# EAGLE library part AD1854 (library analog-devices)
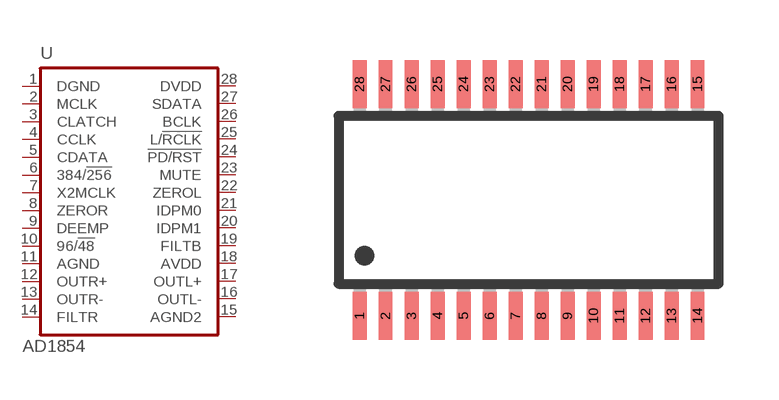
[diagram p150: symbol with the pads of TSSOP28; footprint TSSOP28]

Designator prefix -

## AD1854  [TSSOP28]
1  DGND
2  MCLK
3  CLATCH
4  CCLK  in
5  CDATA  in
6  384/!256  in
7  X2MCLK  in
8  ZEROR  in
9  DEEMP  in
10  96/!48  in
11  AGND  out
12  OUTR+  out
13  OUTR-  in
14  FILTR  out
15  AGND2  out
16  OUTL-  in
17  OUTL+  out
18  AVDD  out
19  FILTB  in
20  IDPM1  in
21  IDPM0  in
22  ZEROL  in
23  MUTE  in
24  !PD/RST  in
25  L/!RCLK  in
26  BCLK  out
27  SDATA  out
28  DVDD  in

## Footprint TSSOP28 (pad centres in mm)
28-Lead TSSOP Package RU-28
smd 0.35 x 1.2: 1 -4.225,-2.9; 2 -3.575,-2.9; 3 -2.925,-2.9; 4 -2.275,-2.9; 5 -1.625,-2.9; 6 -0.975,-2.9; 7 -0.325,-2.9; 8 0.325,-2.9; 9 0.975,-2.9; 10 1.625,-2.9; 11 2.275,-2.9; 12 2.925,-2.9; 13 3.575,-2.9; 14 4.225,-2.9; 15 4.225,2.9; 16 3.575,2.9; 17 2.925,2.9; 18 2.275,2.9; 19 1.625,2.9; 20 0.975,2.9; 21 0.325,2.9; 22 -0.325,2.9; 23 -0.975,2.9; 24 -1.625,2.9; 25 -2.275,2.9; 26 -2.925,2.9; 27 -3.575,2.9; 28 -4.225,2.9